# Altium schematic symbol library ANT-GNSSCP-TH18L1.SchLib: 1 symbol
Pins are listed as number, name and electrical type; pins without a type are passive.

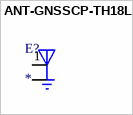
[diagram p0: symbol ANT-GNSSCP-TH18L1]

## ANT-GNSSCP-TH18L1
designator E?
MP: ANT-GNSSCP-TH18L1; Package: None; Price: None; Value: *; Availability: Unavailable
footprint XCVR_ANT-GNSSCP-TH18L1
pins: 1 FEED, 2 GND (power), 3 GND (power), 4 GND (power), 5 GND (power)